# EAGLE library part ICM7555CD/01,118 (library NXP_By_element14_Batch_1)
General purpose CMOS timer
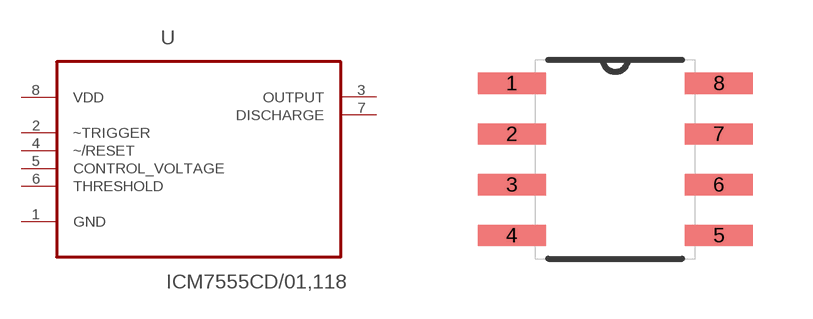
[diagram p291: symbol with the pads of SOIC127P600X175-8N; footprint SOIC127P600X175-8N]

Designator prefix U

## ICM7555CD/01,118 (MPN: ICM7555CD/01,118; OC_FARNELL: 1826635; OC_NEWARK: 78R7395; P1I: o; PACKAGE: SOIC-8; SUPPLIER: NXP)  [SOIC127P600X175-8N]
1  GND  pas
2  ~TRIGGER  in
3  OUTPUT  out
4  ~/RESET  in
5  CONTROL_VOLTAGE  in
6  THRESHOLD  in
7  DISCHARGE  out
8  VDD  pwr

## Footprint SOIC127P600X175-8N (pad centres in mm)
smd 1.702 x 0.533: 1 -2.591,1.905; 2 -2.591,0.635; 3 -2.591,-0.635; 4 -2.591,-1.905; 5 2.591,-1.905; 6 2.591,-0.635; 7 2.591,0.635; 8 2.591,1.905